# Altium footprint library orthofixture.PcbLib: 65 footprints (part 3 of 5)
Each footprint in its own frame and in the unit in brackets; x right, y up, seen from the top. Pads: shape width x height; smd on the part's side, far side on the other; paste and mask are expansions set on the pad; w line width, h text height; cw(c..) or ccw(c..) is an arc to the next point about the centre after c.
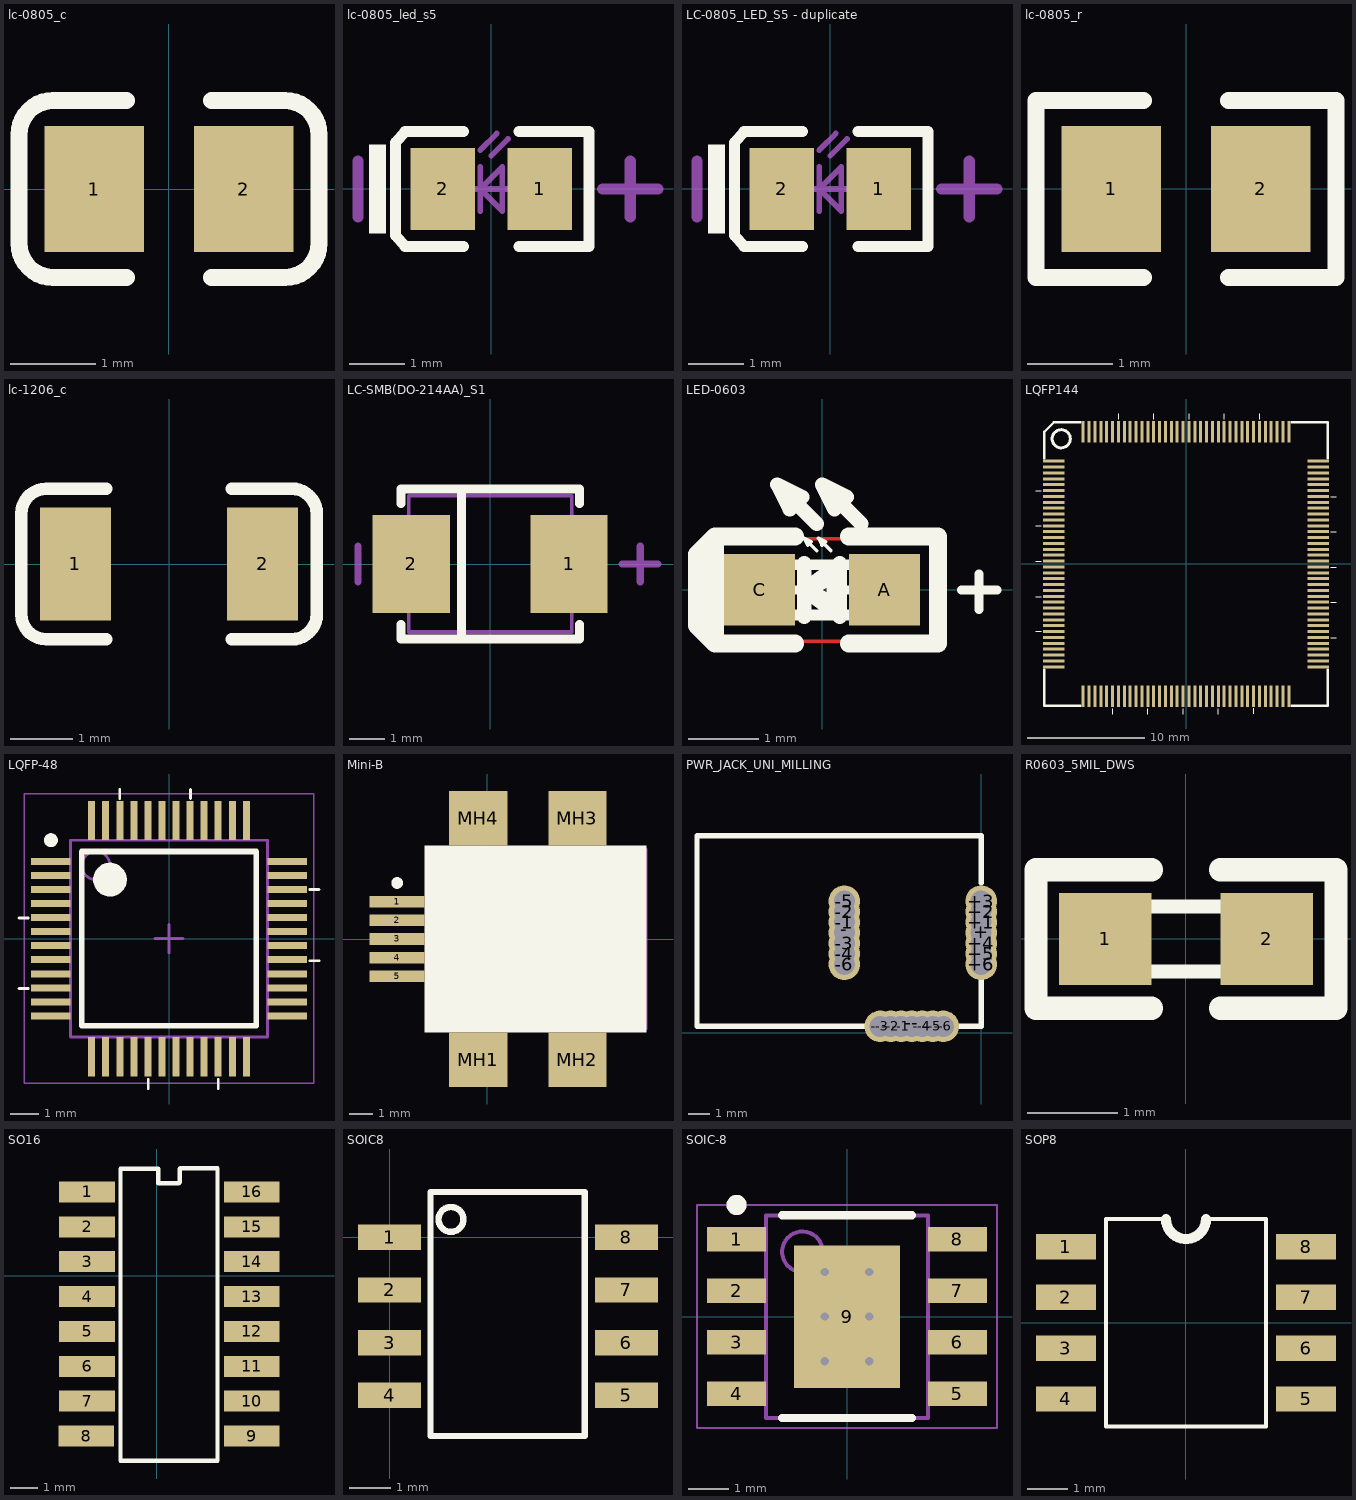
[diagram p2: the footprints below, top view; thin cyan lines are the x and y axes]

## lc-0805_c [mm]
height 12.75
pads (2):
  rect 1.16x1.47 smd: 1(-0.875,0) 2(0.875,0)
Top Overlay:
  lines w0.2: -0.5,-1.035 -1.355,-1.035 cw(c-1.355,-0.635) -1.755,-0.635 -1.755,0.635 cw(c-1.355,0.635) -1.355,1.035 -0.5,1.035 ; 0.5,-1.035 1.355,-1.035 ccw(c1.355,-0.635) 1.755,-0.635 1.755,0.635 ccw(c1.355,0.635) 1.355,1.035 0.5,1.035
3D body "User Library-0805 SMD Capacitor.STEP": height 0.77, standoff -0.01, extent -0.999,-0.625 1.001,0.625

## lc-0805_led_s5 [mm]
height 12.75
pads (2):
  rect 1.16x1.47 smd: 1(0.875,0) 2(-0.875,0)
Top Overlay:
  rectangle: -2.2,-0.8 -1.9,0.8
  lines w0.2: -0.5,-1.035 -1.55,-1.035 -1.725,-0.835 -1.725,0.835 -1.55,1.035 -0.5,1.035 ; 0.5,-1.035 1.755,-1.035 1.755,1.035 0.5,1.035
Mechanical 13:
  lines w0.1: -0.4,0 0.4,0 ; -0.2,-0.4 -0.2,0.4 ; -0.2,0.7 0.1,1 ; 0,0.6 0.3,0.9 ; -0.2,0 0.2,0.4 0.2,-0.4 -0.2,0
Mechanical 15:
  lines w0.203: -2.4,-0.5 -2.4,0.5 ; 2,0 3,0 ; 2.5,-0.5 2.5,0.5
3D body "User Library-led_0805.step": height 1.1, standoff 0, extent -1.01,-0.625 1.01,0.625

## LC-0805_LED_S5 - duplicate [mm]
pads (2):
  rect 1.16x1.47 smd: 1(0.875,0) 2(-0.875,0)
Top Overlay:
  rectangle: -2.2,-0.8 -1.9,0.8
  lines w0.2: -0.5,-1.035 -1.55,-1.035 -1.725,-0.835 -1.725,0.835 -1.55,1.035 -0.5,1.035 ; 0.5,-1.035 1.755,-1.035 1.755,1.035 0.5,1.035
Mechanical 13:
  lines w0.1: -0.4,0 0.4,0 ; -0.2,-0.4 -0.2,0.4 ; -0.2,0.7 0.1,1 ; 0,0.6 0.3,0.9 ; -0.2,0 0.2,0.4 0.2,-0.4 -0.2,0
Mechanical 15:
  lines w0.203: -2.4,-0.5 -2.4,0.5 ; 2,0 3,0 ; 2.5,-0.5 2.5,0.5
3D body "User Library-led_0805.step": height 1.1, standoff 0, extent -1.01,-0.625 1.01,0.625

## lc-0805_r [mm]
height 12.75
pads (2):
  rect 1.16x1.47 smd: 1(-0.875,0) 2(0.875,0)
Top Overlay:
  lines w0.2: -0.5,-1.035 -1.755,-1.035 -1.755,1.035 -0.5,1.035 ; 0.5,-1.035 1.755,-1.035 1.755,1.035 0.5,1.035
3D body "User Library-R_0805.STEP": height 0.49, standoff -0.01, extent -0.997,-0.625 1.003,0.625

## lc-1206_c [mm]
pads (2):
  rect 1.13x1.8 smd: 1(-1.49,0) 2(1.49,0)
Top Overlay:
  lines w0.2: -1,-1.2 -1.955,-1.2 cw(c-1.955,-0.8) -2.355,-0.8 -2.355,0.8 cw(c-1.955,0.8) -1.955,1.2 -1,1.2 ; 1,-1.2 1.955,-1.2 ccw(c1.955,-0.8) 2.355,-0.8 2.355,0.8 ccw(c1.955,0.8) 1.955,1.2 1,1.2
3D body "C1206.STEP": height 1, standoff 0, extent -1.602,-0.813 1.598,0.787

## LC-SMB(DO-214AA)_S1 [mm]
pads (2):
  rect 2.159x2.743 smd: 1(2.21,0) 2(-2.21,0)
Top Overlay:
  lines w0.254: -2.5,-1.7 -2.5,-2.1 2.5,-2.1 2.5,-1.7 ; -2.5,1.7 -2.5,2.1 2.5,2.1 2.5,1.7 ; -0.8,-2.1 -0.8,2.1
Mechanical 13:
  lines w0.1: -2.285,-1.905 -2.285,1.905 2.285,1.905 2.285,-1.905 -2.285,-1.905
Mechanical 15:
  lines w0.203: -3.7,-0.5 -3.7,0.5 ; 3.7,0 4.7,0 ; 4.2,-0.5 4.2,0.5

## LED-0603 [mil]
pads (2):
  rect 40x40 smd: A(35,0) C(-35,0)
Top Layer:
  lines w2: -62.99,-28.7 -62.99,28.7 62.99,28.7 62.99,-28.7 -62.99,-28.7
Top Overlay:
  lines w2: -8,25 -10,29 ; -6,27 -10,29 ; -3,22 -10,29 ; 0,25 -2,29 ; 2,27 -2,29 ; 5,22 -2,29
  lines w5: -20,0 -5,0 ; -5,-5 -5,0 ; -5,5 -5,0 ; 25,0 5,0 ; 78,0 98,0 ; 88,-11 88,9 ; -5,0 5,-5 5,0 ; -5,0 5,5 5,0
  lines w6: -17.01,-14.01 17.01,-14.01 ; -17.01,14.02 17.01,14.02
  lines w8: -18,45 -25,59 ; -11,52 -25,59 ; -10,-15 -10,0 ; -10,15 -10,0 ; -3,37 -25,59 ; 7,45 0,59 ; 14,52 0,59 ; 22,37 0,59 ; -10,0 10,-15 10,15 -10,0
  lines w10: -15,-30 -60,-30 ; -15,30 -60,30 ; 15,-30 65,-30 65,30 15,30 ; -65,-25 -60,-30 ; -65,-25 -70,-20 -70,20 -65,25 ; -65,-25 -65,25 ; -65,25 -60,30 ; -60,-30 -60,30

## LQFP144 [mm]
height 15.49
pads (144):
  rect 1.8x0.254 smd: 1(-11.25,8.75) 2(-11.25,8.25) 3(-11.25,7.75) 4(-11.25,7.25) 5(-11.25,6.75) 6(-11.25,6.25) 7(-11.25,5.75) 8(-11.25,5.25) 9(-11.25,4.75) 10(-11.25,4.25) 11(-11.25,3.75) 12(-11.25,3.25) 13(-11.25,2.75) 14(-11.25,2.25) 15(-11.25,1.75) 16(-11.25,1.25) 17(-11.25,0.75) 18(-11.25,0.25) 19(-11.25,-0.25) 20(-11.25,-0.75) 21(-11.25,-1.25) 22(-11.25,-1.75) 23(-11.25,-2.25) 24(-11.25,-2.75) 25(-11.25,-3.25) 26(-11.25,-3.75) 27(-11.25,-4.25) 28(-11.25,-4.75) 29(-11.25,-5.25) 30(-11.25,-5.75) 31(-11.25,-6.25) 32(-11.25,-6.75) 33(-11.25,-7.25) 34(-11.25,-7.75) 35(-11.25,-8.25) 36(-11.25,-8.75) 73(11.25,-8.75) 74(11.25,-8.25) 75(11.25,-7.75) 76(11.25,-7.25) 77(11.25,-6.75) 78(11.25,-6.25) 79(11.25,-5.75) 80(11.25,-5.25) 81(11.25,-4.75) 82(11.25,-4.25) 83(11.25,-3.75) 84(11.25,-3.25) 85(11.25,-2.75) 86(11.25,-2.25) 87(11.25,-1.75) 88(11.25,-1.25) 89(11.25,-0.75) 90(11.25,-0.25) 91(11.25,0.25) 92(11.25,0.75) 93(11.25,1.25) 94(11.25,1.75) 95(11.25,2.25) 96(11.25,2.75) 97(11.25,3.25) 98(11.25,3.75) 99(11.25,4.25) 100(11.25,4.75) 101(11.25,5.25) 102(11.25,5.75) 103(11.25,6.25) 104(11.25,6.75) 105(11.25,7.25) 106(11.25,7.75) 107(11.25,8.25) 108(11.25,8.75)
  rect 0.254x1.8 smd: 37(-8.75,-11.25) 38(-8.25,-11.25) 39(-7.75,-11.25) 40(-7.25,-11.25) 41(-6.75,-11.25) 42(-6.25,-11.25) 43(-5.75,-11.25) 44(-5.25,-11.25) 45(-4.75,-11.25) 46(-4.25,-11.25) 47(-3.75,-11.25) 48(-3.25,-11.25) 49(-2.75,-11.25) 50(-2.25,-11.25) 51(-1.75,-11.25) 52(-1.25,-11.25) 53(-0.75,-11.25) 54(-0.25,-11.25) 55(0.25,-11.25) 56(0.75,-11.25) 57(1.25,-11.25) 58(1.75,-11.25) 59(2.25,-11.25) 60(2.75,-11.25) 61(3.25,-11.25) 62(3.75,-11.25) 63(4.25,-11.25) 64(4.75,-11.25) 65(5.25,-11.25) 66(5.75,-11.25) 67(6.25,-11.25) 68(6.75,-11.25) 69(7.25,-11.25) 70(7.75,-11.25) 71(8.25,-11.25) 72(8.75,-11.25) 109(8.75,11.25) 110(8.25,11.25) 111(7.75,11.25) 112(7.25,11.25) 113(6.75,11.25) 114(6.25,11.25) 115(5.75,11.25) 116(5.25,11.25) 117(4.75,11.25) 118(4.25,11.25) 119(3.75,11.25) 120(3.25,11.25) 121(2.75,11.25) 122(2.25,11.25) 123(1.75,11.25) 124(1.25,11.25) 125(0.75,11.25) 126(0.25,11.25) 127(-0.25,11.25) 128(-0.75,11.25) 129(-1.25,11.25) 130(-1.75,11.25) 131(-2.25,11.25) 132(-2.75,11.25) 133(-3.25,11.25) 134(-3.75,11.25) 135(-4.25,11.25) 136(-4.75,11.25) 137(-5.25,11.25) 138(-5.75,11.25) 139(-6.25,11.25) 140(-6.75,11.25) 141(-7.25,11.25) 142(-7.75,11.25) 143(-8.25,11.25) 144(-8.75,11.25)
Top Overlay:
  circle w0.254: c-10.616,10.654 r0.773
  lines w0.1: -12.765,-5.729 -12.308,-5.729 ; -12.765,-2.782 -12.308,-2.782 ; -12.765,0.24 -12.308,0.24 ; -12.765,3.238 -12.308,3.238 ; -12.765,6.235 -12.308,6.235 ; -6.237,-12.764 -6.237,-12.307 ; -5.729,12.305 -5.729,12.763 ; -3.24,-12.764 -3.24,-12.307 ; -2.732,12.305 -2.732,12.763 ; -0.243,-12.764 -0.243,-12.307 ; 0.265,12.305 0.265,12.763 ; 2.754,-12.764 2.754,-12.307 ; 3.262,12.305 3.262,12.763 ; 5.752,-12.739 5.752,-12.282 ; 6.26,12.305 6.26,12.763 ; 12.305,-6.262 12.762,-6.262 ; 12.305,-3.265 12.762,-3.265 ; 12.305,-0.268 12.762,-0.268 ; 12.305,2.73 12.762,2.73 ; 12.305,5.727 12.762,5.727
  lines w0.2: -12.05,-9 -12.05,-12.05 -9,-12.05 ; -12.05,9 -12.05,11.25 -11.25,12.05 -9,12.05 ; 9,-12.05 12.05,-12.05 12.05,-9 ; 9,12.05 12.05,12.05 12.05,9

## LQFP-48 [mm] "TSQFP, 48-Leads, Body 7.00x7.00mm, Pitch 0.50mm, IPC Medium Density"
height 1.6
pads (48):
  rect 1.4x0.25 smd: 1(-4.2,2.75) 2(-4.2,2.25) 3(-4.2,1.75) 4(-4.2,1.25) 5(-4.2,0.75) 6(-4.2,0.25) 7(-4.2,-0.25) 8(-4.2,-0.75) 9(-4.2,-1.25) 10(-4.2,-1.75) 11(-4.2,-2.25) 12(-4.2,-2.75) 25(4.2,-2.75) 26(4.2,-2.25) 27(4.2,-1.75) 28(4.2,-1.25) 29(4.2,-0.75) 30(4.2,-0.25) 31(4.2,0.25) 32(4.2,0.75) 33(4.2,1.25) 34(4.2,1.75) 35(4.2,2.25) 36(4.2,2.75)
  rect 0.25x1.4 smd: 13(-2.75,-4.2) 14(-2.25,-4.2) 15(-1.75,-4.2) 16(-1.25,-4.2) 17(-0.75,-4.2) 18(-0.25,-4.2) 19(0.25,-4.2) 20(0.75,-4.2) 21(1.25,-4.2) 22(1.75,-4.2) 23(2.25,-4.2) 24(2.75,-4.2) 37(2.75,4.2) 38(2.25,4.2) 39(1.75,4.2) 40(1.25,4.2) 41(0.75,4.2) 42(0.25,4.2) 43(-0.25,4.2) 44(-0.75,4.2) 45(-1.25,4.2) 46(-1.75,4.2) 47(-2.25,4.2) 48(-2.75,4.2)
Top Overlay:
  circle w0.25: c-4.2,3.5 r0.125
  circle w0.6: c-2.1,2.1 r0.3
  lines w0.1: -5.334,-1.778 -5.004,-1.778 ; -5.334,0.737 -5.004,0.737 ; -1.753,4.978 -1.753,5.309 ; -0.737,-5.334 -0.737,-5.004 ; 0.762,4.978 0.762,5.309 ; 1.753,-5.334 1.753,-5.004 ; 5.004,-0.787 5.334,-0.787 ; 5.004,1.753 5.334,1.753
  lines w0.2: -3.1,-3.1 -3.1,3.1 3.1,3.1 3.1,-3.1 -3.1,-3.1
Mechanical 13:
  circle w0.1: c-2.6,2.6 r0.5
  lines w0.1: -3.5,-3.5 -3.5,3.5 3.5,3.5 3.5,-3.5 -3.5,-3.5
Mechanical 15:
  lines w0.05: -5.15,-5.15 -5.15,5.15 5.15,5.15 5.15,-5.15 -5.15,-5.15
  lines w0.1: -0.5,0 0.5,0 ; 0,-0.5 0,0.5
3D body: height 1.6, standoff 0.15, extent -3.5,-3.5 3.5,3.5

## Mini-B [mm] "Connector; USB Mini-B, Sinking Type, SM; 5 Position; Right Angle,481900001"
height 0.35
pads (9):
  rect 2.35x0.5 smd: 1(-3.862,1.6) 2(-3.862,0.8) 3(-3.862,0) 4(-3.862,-0.8) 5(-3.862,-1.6)
  rect 2.5x2.35 smd: MH1(-0.387,-5.175) MH2(3.863,-5.175) MH3(3.863,5.175) MH4(-0.387,5.175)
Top Overlay:
  circle w0.25: c-3.862,2.4 r0.125
  rectangle: -2.687,-4 6.813,4
Mechanical 13:
  lines w0.1: -1.788,-3.85 6.813,-3.85 6.813,3.85 -1.788,3.85 -1.788,-3.85
3D body: height 0.35, standoff -3.25, extent -1.798,-3.838 6.801,3.861

## PWR_JACK_UNI_MILLING [mm]
pads (21):
  round 1.5 hole 1: +(0,4.75) +1(0,5.25) +2(0,5.75) +3(0,6.25) +4(0,4.25) +5(0,3.75) +6(0,3.25) -(-6.5,4.75) -1(-6.5,5.25) -2(-6.5,5.75) -3(-6.5,4.25) -4(-6.5,3.75) -5(-6.5,6.25) -6(-6.5,3.25) --(-3.3,0.3) --1(-3.8,0.3) --2(-4.3,0.3) --3(-4.8,0.3) --4(-2.8,0.3) --5(-2.3,0.3) --6(-1.8,0.3)
Top Overlay:
  lines w0.254: -5.461,0.3 -13.5,0.3 -13.5,9.352 0,9.352 0,7.112 ; -1.143,0.3 0,0.3 0,2.54
Mechanical 2:
  lines w0.127: -7,3 -7,6.5 -6,6.5 -6,3 -7,3 ; -5.05,-0.2 -1.55,-0.2 -1.55,0.8 -5.05,0.8 -5.05,-0.2 ; -0.5,2.75 -0.5,6.75 0.5,6.75 0.5,2.75 -0.5,2.75

## R0603_5MIL_DWS [mil]
pads (2):
  rect 40x40 smd: 1(-35,0) 2(35,0)
Top Overlay:
  lines w6: -17.01,-14.02 17.01,-14.02 ; -17.01,14.01 17.01,14.01
  lines w10: -15,-30 -65,-30 -65,30 -15,30 ; 15,-30 65,-30 65,30 15,30

## SO16 [mil]
height 609.84
pads (16):
  rect 80x30 smd: 1(-100,120) 2(-100,70) 3(-100,20) 4(-100,-30) 5(-100,-80) 6(-100,-130) 7(-100,-180) 8(-101.25,-230) 9(136.22,-230) 10(136.22,-180) 11(136.22,-130) 12(136.22,-80) 13(136.22,-30) 14(136.22,20) 15(136.22,70) 16(136.22,120)
Top Overlay:
  lines w6: -52.24,-265.23 87.07,-265.23 87.07,153.9 33.62,153.9 32.91,153.19 32.91,133.82 31.5,132.4 2.21,132.4 2.21,153.19 -52.24,153.19 -52.24,-265.23

## SOIC8 [mil]
height 609.84
pads (8):
  rect 60x24 smd: 1(0,0) 2(0,-50) 3(0,-100) 4(0,-150) 5(224.77,-150) 6(224.77,-100) 7(224.77,-50) 8(224.77,0)
Top Overlay:
  lines w6: 70.05,17.01 cw(c58.24,17.01) 70.05,17.03 ; 38.77,-188.69 38.77,43.09 185.18,43.09 185.18,-188.69 38.77,-188.69

## SOIC-8 [mm] "SOIC, 8-Leads, Body 4.90x3.90mm, Pitch 1.27mm, Thermal Pad 3.51x2.62mm, IPC Medium Density"
height 0.15
pads (9):
  rect 1.45x0.6 smd: 1(-2.725,1.905) 2(-2.725,0.635) 3(-2.725,-0.635) 4(-2.725,-1.905) 5(2.725,-1.905) 6(2.725,-0.635) 7(2.725,0.635) 8(2.725,1.905)
  rect 2.62x3.51 smd: 9(0,0)
via 0.55,-1.1 diameter 0.5 hole 0.2
via -0.55,-1.1 diameter 0.5 hole 0.2
via 0.55,0 diameter 0.5 hole 0.2
via -0.55,0 diameter 0.5 hole 0.2
via 0.55,1.1 diameter 0.5 hole 0.2
via -0.55,1.1 diameter 0.5 hole 0.2
Top Overlay:
  circle w0.25: c-2.725,2.755 r0.125
  lines w0.2: -1.6,-2.5 1.6,-2.5 ; -1.6,2.5 1.6,2.5
Mechanical 13:
  circle w0.1: c-1.1,1.6 r0.5
  lines w0.1: -2,-2.5 2,-2.5 2,2.5 -2,2.5 -2,-2.5
Mechanical 15:
  lines w0.05: -3.7,-2.75 3.7,-2.75 3.7,2.75 -3.7,2.75 -3.7,-2.75
  lines w0.1: -0.5,0 0.5,0 ; 0,-0.5 0,0.5
3D body: height 1.7, standoff 0.15, extent -2,-2.5 2,2.5

## SOP8 [mm]
height 5.08
pads (8):
  rect 1.5x0.635 smd: 1(-3,1.905) 2(-3,0.635) 3(-3,-0.635) 4(-3,-1.905) 5(3,-1.905) 6(3,-0.635) 7(3,0.635) 8(3,1.905)
Top Overlay:
  lines w0.1: -0.5,2.595 -2,2.595 -2,-2.595 2,-2.595 2,2.595 0.5,2.595
  lines w0.254: -0.5,2.595 ccw(c0,2.595) 0.5,2.595